# EAGLE library part MY2 (library rel-omron)
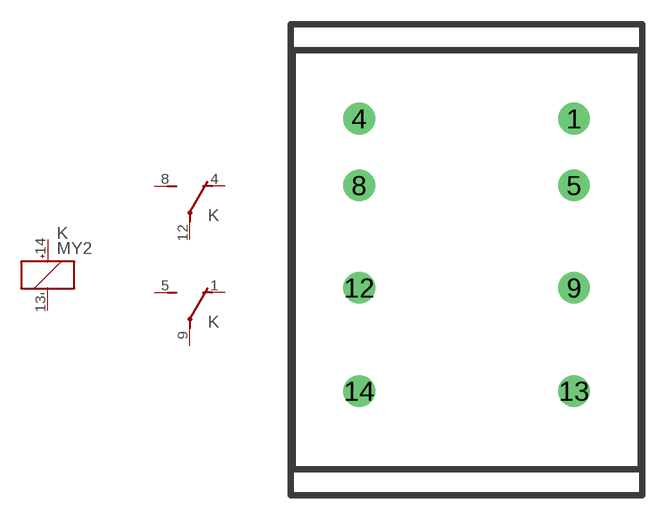
[diagram p1: symbol with the pads of PY08; footprint PY08]

Designator prefix K; gates G$2=PCO G$3=PCO G$1=K+-

## MY2  [PY08]
1  G$3:NC  pas
4  G$2:NC  pas
5  G$3:NO  pas
8  G$2:NO  pas
9  G$3:C  pas
12  G$2:C  pas
13  G$1:-  pas
14  G$1:+  pas

## Footprint PY08 (pad centres in mm)
drill 1.3: 1 6.595,8.675; 4 -6.605,8.675; 5 6.595,4.575; 8 -6.605,4.575; 9 6.595,-1.725; 12 -6.605,-1.725; 13 6.595,-8.075; 14 -6.605,-8.075